# Altium footprint library CSPBGA-208.PcbLib: 1 footprints
Each footprint in its own frame and in the unit in brackets; x right, y up, seen from the top. Pads: shape width x height; smd on the part's side, far side on the other; paste and mask are expansions set on the pad; w line width, h text height; cw(c..) or ccw(c..) is an arc to the next point about the centre after c.
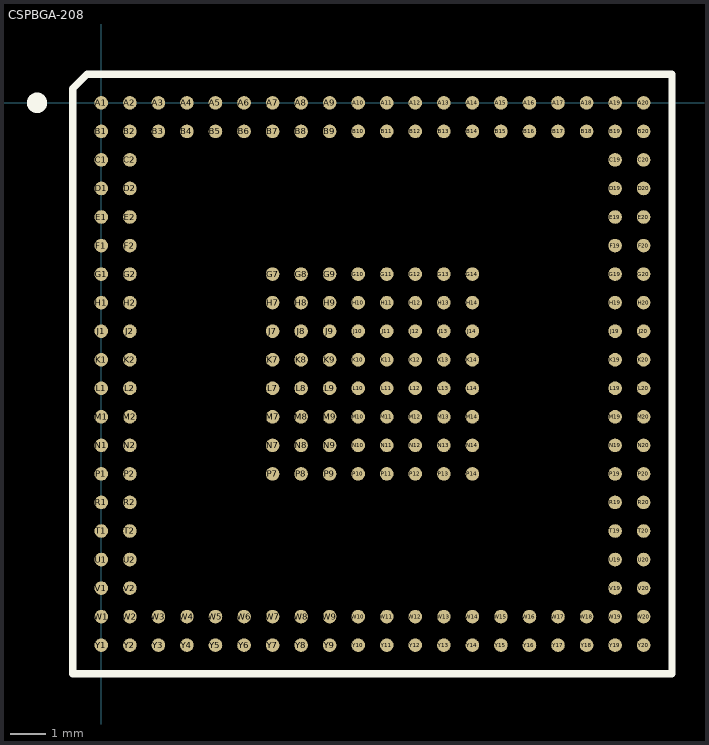
[diagram p0: the footprint, top view; thin cyan lines are the x and y axes]

## CSPBGA-208 [mil]
pads (208):
  round 15 smd: A1(0,0) A2(31.5,0) A3(62.99,0) A4(94.49,0) A5(125.98,0) A6(157.48,0) A7(188.98,0) A8(220.47,0) A9(251.97,0) A10(283.46,0) A11(314.96,0) A12(346.46,0) A13(377.95,0) A14(409.45,0) A15(440.95,0) A16(472.44,0) A17(503.94,0) A18(535.43,0) A19(566.93,0) A20(598.43,0) B1(0,-31.5) B2(31.5,-31.5) B3(62.99,-31.5) B4(94.49,-31.5) B5(125.98,-31.5) B6(157.48,-31.5) B7(188.98,-31.5) B8(220.47,-31.5) B9(251.97,-31.5) B10(283.46,-31.5) B11(314.96,-31.5) B12(346.46,-31.5) B13(377.95,-31.5) B14(409.45,-31.5) B15(440.95,-31.5) B16(472.44,-31.5) B17(503.94,-31.5) B18(535.43,-31.5) B19(566.93,-31.5) B20(598.43,-31.5) C1(0,-62.99) C2(31.5,-62.99) C19(566.93,-62.99) C20(598.43,-62.99) D1(0,-94.49) D2(31.5,-94.49) D19(566.93,-94.49) D20(598.43,-94.49) E1(0,-125.98) E2(31.5,-125.98) E19(566.93,-125.98) E20(598.43,-125.98) F1(0,-157.48) F2(31.5,-157.48) F19(566.93,-157.48) F20(598.43,-157.48) G1(0,-188.98) G2(31.5,-188.98) G7(188.98,-188.98) G8(220.47,-188.98) G9(251.97,-188.98) G10(283.46,-188.98) G11(314.96,-188.98) G12(346.46,-188.98) G13(377.95,-188.98) G14(409.45,-188.98) G19(566.93,-188.98) G20(598.43,-188.98) H1(0,-220.47) H2(31.5,-220.47) H7(188.98,-220.47) H8(220.47,-220.47) H9(251.97,-220.47) H10(283.46,-220.47) H11(314.96,-220.47) H12(346.46,-220.47) H13(377.95,-220.47) H14(409.45,-220.47) H19(566.93,-220.47) H20(598.43,-220.47) J1(0,-251.97) J2(31.5,-251.97) J7(188.98,-251.97) J8(220.47,-251.97) J9(251.97,-251.97) J10(283.46,-251.97) J11(314.96,-251.97) J12(346.46,-251.97) J13(377.95,-251.97) J14(409.45,-251.97) J19(566.93,-251.97) J20(598.43,-251.97) K1(0,-283.46) K2(31.5,-283.46) K7(188.98,-283.46) K8(220.47,-283.46) K9(251.97,-283.46) K10(283.46,-283.46) K11(314.96,-283.46) K12(346.46,-283.46) K13(377.95,-283.46) K14(409.45,-283.46) K19(566.93,-283.46) K20(598.43,-283.46) L1(0,-314.96) L2(31.5,-314.96) L7(188.98,-314.96) L8(220.47,-314.96) L9(251.97,-314.96) L10(283.46,-314.96) L11(314.96,-314.96) L12(346.46,-314.96) L13(377.95,-314.96) L14(409.45,-314.96) L19(566.93,-314.96) L20(598.43,-314.96) M1(0,-346.46) M2(31.5,-346.46) M7(188.98,-346.46) M8(220.47,-346.46) M9(251.97,-346.46) M10(283.46,-346.46) M11(314.96,-346.46) M12(346.46,-346.46) M13(377.95,-346.46) M14(409.45,-346.46) M19(566.93,-346.46) M20(598.43,-346.46) N1(0,-377.95) N2(31.5,-377.95) N7(188.98,-377.95) N8(220.47,-377.95) N9(251.97,-377.95) N10(283.46,-377.95) N11(314.96,-377.95) N12(346.46,-377.95) N13(377.95,-377.95) N14(409.45,-377.95) N19(566.93,-377.95) N20(598.43,-377.95) P1(0,-409.45) P2(31.5,-409.45) P7(188.98,-409.45) P8(220.47,-409.45) P9(251.97,-409.45) P10(283.46,-409.45) P11(314.96,-409.45) P12(346.46,-409.45) P13(377.95,-409.45) P14(409.45,-409.45) P19(566.93,-409.45) P20(598.43,-409.45) R1(0,-440.95) R2(31.5,-440.95) R19(566.93,-440.95) R20(598.43,-440.95) T1(0,-472.44) T2(31.5,-472.44) T19(566.93,-472.44) T20(598.43,-472.44) U1(0,-503.94) U2(31.5,-503.94) U19(566.93,-503.94) U20(598.43,-503.94) V1(0,-535.43) V2(31.5,-535.43) V19(566.93,-535.43) V20(598.43,-535.43) W1(0,-566.93) W2(31.5,-566.93) W3(62.99,-566.93) W4(94.49,-566.93) W5(125.98,-566.93) W6(157.48,-566.93) W7(188.98,-566.93) W8(220.47,-566.93) W9(251.97,-566.93) W10(283.46,-566.93) W11(314.96,-566.93) W12(346.46,-566.93) W13(377.95,-566.93) W14(409.45,-566.93) W15(440.95,-566.93) W16(472.44,-566.93) W17(503.94,-566.93) W18(535.43,-566.93) W19(566.93,-566.93) W20(598.43,-566.93) Y1(0,-598.43) Y2(31.5,-598.43) Y3(62.99,-598.43) Y4(94.49,-598.43) Y5(125.98,-598.43) Y6(157.48,-598.43) Y7(188.98,-598.43) Y8(220.47,-598.43) Y9(251.97,-598.43) Y10(283.46,-598.43) Y11(314.96,-598.43) Y12(346.46,-598.43) Y13(377.95,-598.43) Y14(409.45,-598.43) Y15(440.95,-598.43) Y16(472.44,-598.43) Y17(503.94,-598.43) Y18(535.43,-598.43) Y19(566.93,-598.43) Y20(598.43,-598.43)
TopOverlay:
  circle w19.68: c-70.87,0 r1.38
  lines w7.87: -31.5,-629.92 629.92,-629.92 629.92,31.5 -15.75,31.5 -31.5,15.75 -31.5,-629.92
3D body: height 66.93, standoff 0, extent -35.43,-633.86 633.86,35.43